# Altium integrated library TI Power Management Current Reference.IntLib: 5 symbols
Pins are listed as number, name and electrical type; pins without a type are passive.

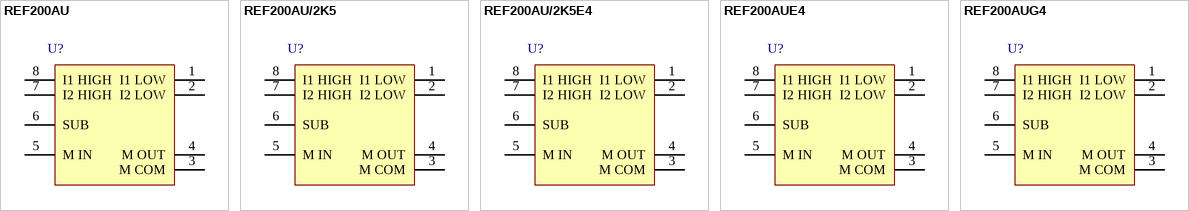
[diagram p0: symbols REF200AU to REF200AUG4]

## REF200AU
designator U?
Dual Current Source / Current Sink, 2.5 to 40 V, 0.1 mA, -25 to 85 degC, 8-pin SOIC (D), Green (RoHS & no Sb/Br); Manufacturer: Texas Instruments; PartNumber: REF200AU; Iout/Iz(Max)(mA): 0.1; SubFamily: Current Reference; VI(Max)(V): 40; VI(Min)(V): 2.5; DatasheetVersion: SBVS020; PackageVersion: 4040047-3/M; PackageReference: D8; PackageDescription: 8-Pin Plastic Small Outline, Body 4.9 x 3.9 mm, Pitch 1.27 mm; Supplier 1: Digi-Key; Supplier Part Number 1: REF200AU-ND; Supplier 2: Newark; Supplier Part Number 2: 34C7615; Supplier 3: Mouser; Supplier Part Number 3: 595-REF200AU; Eco-Plan: Green (RoHS & no Sb/Br); Mounting Technology: Surface Mount; Code_JEDEC: MS-012; ComponentLink1Description: Manufacturer URL; ComponentLink1URL: http://www.ti.com/; ComponentLink2Description: Datasheet; ComponentLink2URL: http://www.ti.com/general/docs/lit/getliterature.tsp?genericPartNumber=REF200&fileType=pdf; ComponentLink3Description: Package Specification; ComponentLink3URL: http://www.ti.com/litv/pdf/msoi002j
footprint TI-D8_N (SOIC, 8-Leads, Body 4.9x3.9mm, Pitch 1.27mm, IPC Medium Density)
pins: 1 I1 LOW, 2 I2 LOW, 3 M COM, 4 M OUT, 5 M IN, 6 SUB, 7 I2 HIGH, 8 I1 HIGH

## REF200AU/2K5
designator U?
Dual Current Source / Current Sink, 2.5 to 40 V, 0.1 mA, -25 to 85 degC, 8-pin SOIC (D), Green (RoHS & no Sb/Br); Manufacturer: Texas Instruments; PartNumber: REF200AU/2K5; Iout/Iz(Max)(mA): 0.1; SubFamily: Current Reference; VI(Max)(V): 40; VI(Min)(V): 2.5; DatasheetVersion: SBVS020; PackageVersion: 4040047-3/M; PackageReference: D8; PackageDescription: 8-Pin Plastic Small Outline, Body 4.9 x 3.9 mm, Pitch 1.27 mm; Supplier 1: Digi-Key; Supplier Part Number 1: 296-27726-2-ND; Supplier 2: Digi-Key; Supplier Part Number 2: 296-27726-1-ND; Supplier 3: Digi-Key; Supplier Part Number 3: 296-27726-6-ND; Supplier 4: Newark; Supplier Part Number 4: 75C7411; Supplier 5: Mouser; Supplier Part Number 5: 595-REF200AU/2K5; Eco-Plan: Green (RoHS & no Sb/Br); Mounting Technology: Surface Mount; Code_JEDEC: MS-012; ComponentLink1Description: Manufacturer URL; ComponentLink1URL: http://www.ti.com/; ComponentLink2Description: Datasheet; ComponentLink2URL: http://www.ti.com/general/docs/lit/getliterature.tsp?genericPartNumber=REF200&fileType=pdf; ComponentLink3Description: Package Specification; ComponentLink3URL: http://www.ti.com/litv/pdf/msoi002j
footprint TI-D8_N (SOIC, 8-Leads, Body 4.9x3.9mm, Pitch 1.27mm, IPC Medium Density)
pins: 1 I1 LOW, 2 I2 LOW, 3 M COM, 4 M OUT, 5 M IN, 6 SUB, 7 I2 HIGH, 8 I1 HIGH

## REF200AU/2K5E4
designator U?
Dual Current Source / Current Sink, 2.5 to 40 V, 0.1 mA, -25 to 85 degC, 8-pin SOIC (D), Green (RoHS & no Sb/Br); Manufacturer: Texas Instruments; PartNumber: REF200AU/2K5E4; Iout/Iz(Max)(mA): 0.1; SubFamily: Current Reference; VI(Max)(V): 40; VI(Min)(V): 2.5; DatasheetVersion: SBVS020; PackageVersion: 4040047-3/M; PackageReference: D8; PackageDescription: 8-Pin Plastic Small Outline, Body 4.9 x 3.9 mm, Pitch 1.27 mm; Supplier 1: Digi-Key; Supplier Part Number 1: REF200AU/2K5E4-ND; Supplier 2: Newark; Supplier Part Number 2: 61K1529; Supplier 3: Mouser; Supplier Part Number 3: 595-REF200AU/2K5E4; Eco-Plan: Green (RoHS & no Sb/Br); Mounting Technology: Surface Mount; Code_JEDEC: MS-012; ComponentLink1Description: Manufacturer URL; ComponentLink1URL: http://www.ti.com/; ComponentLink2Description: Datasheet; ComponentLink2URL: http://www.ti.com/general/docs/lit/getliterature.tsp?genericPartNumber=REF200&fileType=pdf; ComponentLink3Description: Package Specification; ComponentLink3URL: http://www.ti.com/litv/pdf/msoi002j
footprint TI-D8_N (SOIC, 8-Leads, Body 4.9x3.9mm, Pitch 1.27mm, IPC Medium Density)
pins: 1 I1 LOW, 2 I2 LOW, 3 M COM, 4 M OUT, 5 M IN, 6 SUB, 7 I2 HIGH, 8 I1 HIGH

## REF200AUE4
designator U?
Dual Current Source / Current Sink, 0.1 mA, -25 to 85 degC, 8-pin SOIC (D), Green (RoHS & no Sb/Br); Manufacturer: Texas Instruments; PartNumber: REF200AUE4; Iout/Iz(Max)(mA): 0.1; SubFamily: Current Reference; VI(Max)(V): 40; VI(Min)(V): 2.5; DatasheetVersion: SBVS020; PackageVersion: 4040047-3/M; PackageReference: D8; PackageDescription: 8-Pin Plastic Small Outline, Body 4.9 x 3.9 mm, Pitch 1.27 mm; Supplier 1: Digi-Key; Supplier Part Number 1: 296-26320-5-ND; Supplier 2: Farnell; Supplier Part Number 2: 1207240; Supplier 3: Newark; Supplier Part Number 3: 24M6806; Supplier 4: Newark; Supplier Part Number 4: 61K1530; Supplier 5: Mouser; Supplier Part Number 5: 595-REF200AUE4; Eco-Plan: Green (RoHS & no Sb/Br); Mounting Technology: Surface Mount; Code_JEDEC: MS-012; ComponentLink1Description: Manufacturer URL; ComponentLink1URL: http://www.ti.com/; ComponentLink2Description: Datasheet; ComponentLink2URL: http://www.ti.com/general/docs/lit/getliterature.tsp?genericPartNumber=REF200&fileType=pdf; ComponentLink3Description: Package Specification; ComponentLink3URL: http://www.ti.com/litv/pdf/msoi002j
footprint TI-D8_N (SOIC, 8-Leads, Body 4.9x3.9mm, Pitch 1.27mm, IPC Medium Density)
pins: 1 I1 LOW, 2 I2 LOW, 3 M COM, 4 M OUT, 5 M IN, 6 SUB, 7 I2 HIGH, 8 I1 HIGH

## REF200AUG4
designator U?
Dual Current Source / Current Sink, 0.1 mA, -25 to 85 degC, 8-pin SOIC (D), Green (RoHS & no Sb/Br); Manufacturer: Texas Instruments; PartNumber: REF200AUG4; Iout/Iz(Max)(mA): 0.1; SubFamily: Current Reference; VI(Max)(V): 40; VI(Min)(V): 2.5; DatasheetVersion: SBVS020; PackageVersion: 4040047-3/M; PackageReference: D8; PackageDescription: 8-Pin Plastic Small Outline, Body 4.9 x 3.9 mm, Pitch 1.27 mm; Supplier 1: Digi-Key; Supplier Part Number 1: REF200AUG4-ND; Supplier 2: Newark; Supplier Part Number 2: 28M6742; Supplier 3: Mouser; Supplier Part Number 3: 595-REF200AUG4; Eco-Plan: Green (RoHS & no Sb/Br); Mounting Technology: Surface Mount; Code_JEDEC: MS-012; ComponentLink1Description: Manufacturer URL; ComponentLink1URL: http://www.ti.com/; ComponentLink2Description: Datasheet; ComponentLink2URL: http://www.ti.com/general/docs/lit/getliterature.tsp?genericPartNumber=REF200&fileType=pdf; ComponentLink3Description: Package Specification; ComponentLink3URL: http://www.ti.com/litv/pdf/msoi002j
footprint TI-D8_N (SOIC, 8-Leads, Body 4.9x3.9mm, Pitch 1.27mm, IPC Medium Density)
pins: 1 I1 LOW, 2 I2 LOW, 3 M COM, 4 M OUT, 5 M IN, 6 SUB, 7 I2 HIGH, 8 I1 HIGH